# Altium footprint library PCB - LEADED - MISC - TO-252-3.PCBLIB: 1 footprints
Each footprint in its own frame and in the unit in brackets; x right, y up, seen from the top. Pads: shape width x height; smd on the part's side, far side on the other; paste and mask are expansions set on the pad; w line width, h text height; cw(c..) or ccw(c..) is an arc to the next point about the centre after c.
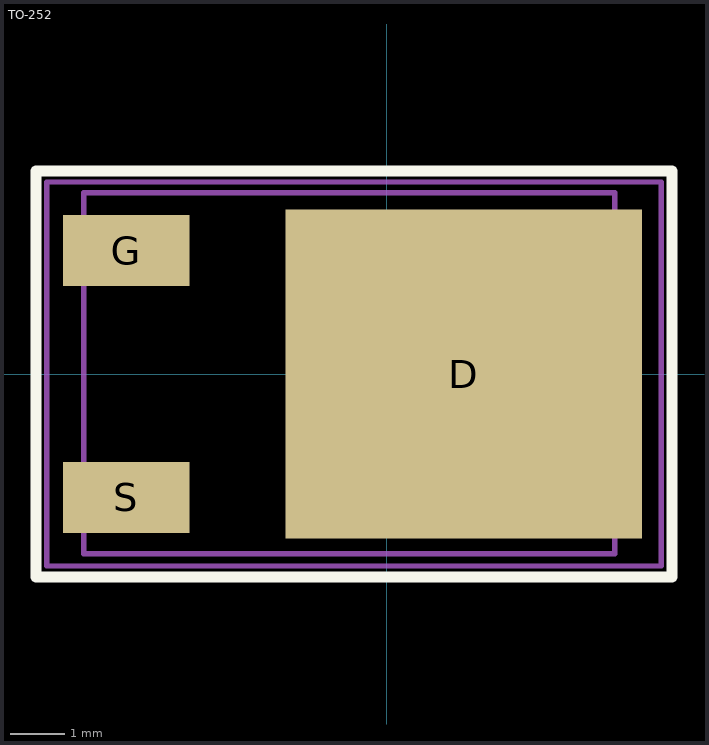
[diagram p0: the footprint, top view; thin cyan lines are the x and y axes]

## TO-252 [mm]
height 2.4
pads (3):
  rect 6.5x6 smd: D(1.4,0)
  rect 2.3x1.3 smd: G(-4.75,2.25) S(-4.75,-2.25)
Top Overlay:
  lines w0.2: -6.4,-3.7 -6.4,3.7 5.2,3.7 5.2,-3.7 -6.4,-3.7
Mechanical 13:
  lines w0.1: -5.525,-3.275 4.15,-3.275 4.15,3.3 -5.525,3.3 -5.525,-3.275
Mechanical 15:
  lines w0.1: -0.5,0 0.5,0 ; 0,-0.5 0,0.5 ; -6.2,-3.5 5,-3.5 5,3.5 -6.2,3.5 -6.2,-3.5
3D body "to252-3_p4-56_l6-54_w6-04.stp": height 2.29, standoff -0.01, extent -5.495,-3.27 4.174,3.27